# Altium schematic symbol library SLA-05VDC-SL-C.SchLib: 1 symbol
Pins are listed as number, name and electrical type; pins without a type are passive.

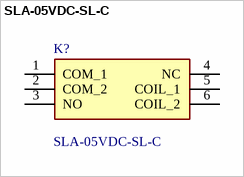
[diagram p0: symbol SLA-05VDC-SL-C]

## SLA-05VDC-SL-C
designator K?
Relays General Purpose Non Latching 5VDC SPDT 30A (250VAC) Max Plugin RoHS; Manufacturer_Name: Songle Relay; Geometry.Height: 20.4mm; Manufacturer_Part_Number: SLA-05VDC-SL-C; Mouser Part Number: *; Mouser Price/Stock: *; Arrow Part Number: *; Arrow Price/Stock: *; Datasheet Link: https://datasheet.lcsc.com/szlcsc/Ningbo-Songle-Relay-SLA-05VDC-SL-C_C87367.pdf
footprint SLA05VDCSLC
pins: 1 COM_1, 2 COM_2, 3 NO, 4 NC, 5 COIL_1, 6 COIL_2